# Altium footprint library Connector_Phoenix_MC.PcbLib: 180 footprints (part 4 of 12)
Each footprint in its own frame and in the unit in brackets; x right, y up, seen from the top. Pads: shape width x height; smd on the part's side, far side on the other; paste and mask are expansions set on the pad; w line width, h text height; cw(c..) or ccw(c..) is an arc to the next point about the centre after c.
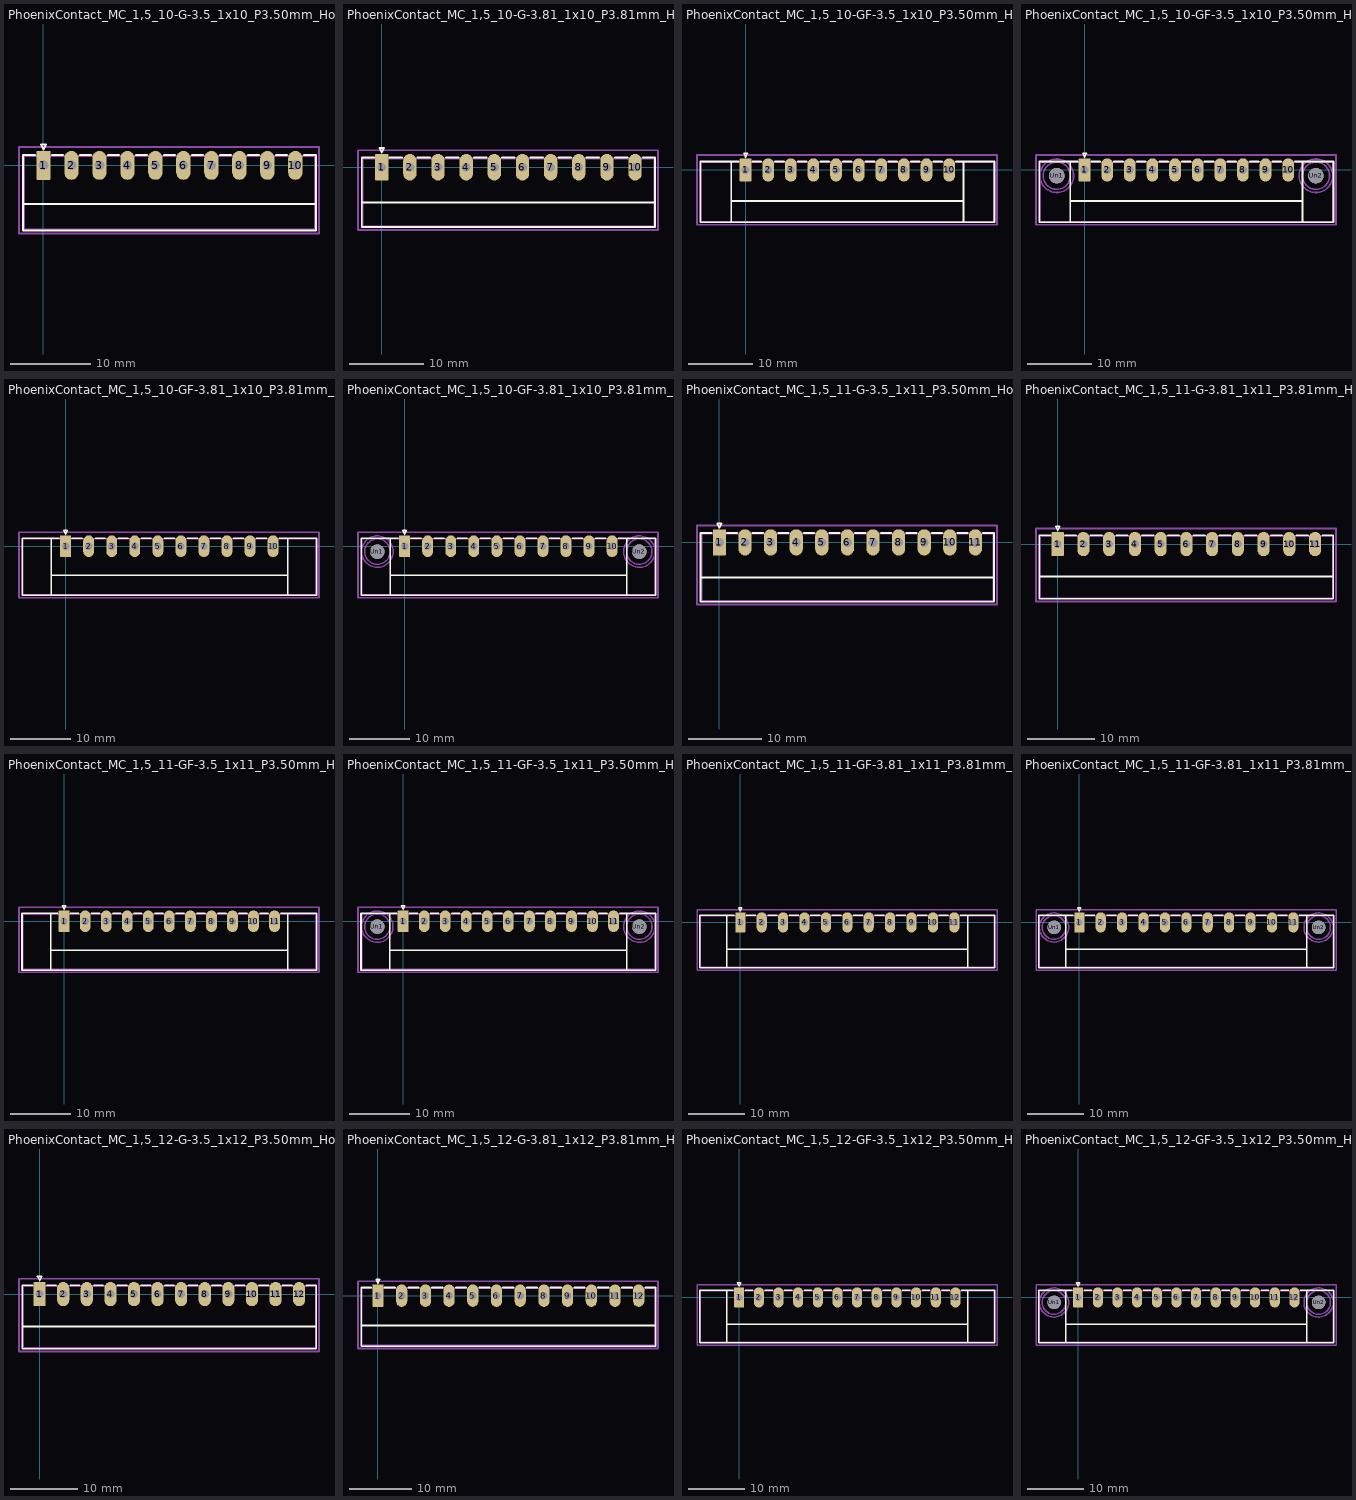
[diagram p3: the footprints below, top view; thin cyan lines are the x and y axes]

## PhoenixContact_MC_1,5_10-G-3.5_1x10_P3.50mm_Horizontal [mm]
pads (10):
  rrect14% 1.8x3.6 hole 1.2: 1(0,0)
  rrect100% 1.8x3.6 hole 1.2: 2(3.5,0) 3(7,0) 4(10.5,0) 5(14,0) 6(17.5,0) 7(21,0) 8(24.5,0) 9(28,0) 10(31.5,0)
F.SilkS:
  lines w0.254: -2.56,-4.8 34.06,-4.8 ; -1.05,1.31 -2.56,1.31 -2.56,-8.11 34.06,-8.11 34.06,1.31 32.55,1.31 ; 1.05,1.31 2.45,1.31 ; 4.55,1.31 5.95,1.31 ; 8.05,1.31 9.45,1.31 ; 11.55,1.31 12.95,1.31 ; 15.05,1.31 16.45,1.31 ; 18.55,1.31 19.95,1.31 ; 22.05,1.31 23.45,1.31 ; 25.55,1.31 26.95,1.31 ; 29.05,1.31 30.45,1.31 ; -0.3,2.6 0,2 0.3,2.6 -0.3,2.6
Top Assembly:
  lines w0.254: -0.8,1.2 0,0 0.8,1.2 ; -2.45,-8 33.95,-8 33.95,1.2 -2.45,1.2 -2.45,-8
  text "'.Designator'" at 11.703,-0.34 h1
Top Courtyard:
  lines w0.254: -3.06,-8.5 34.45,-8.5 34.45,2.3 -3.06,2.3 -3.06,-8.5
Top Designator:
  text ".Designator" at 8.077,-3.458 h1.52

## PhoenixContact_MC_1,5_10-G-3.81_1x10_P3.81mm_Horizontal [mm]
pads (10):
  rrect14% 1.8x3.6 hole 1.2: 1(0,0)
  rrect100% 1.8x3.6 hole 1.2: 2(3.81,0) 3(7.62,0) 4(11.43,0) 5(15.24,0) 6(19.05,0) 7(22.86,0) 8(26.67,0) 9(30.48,0) 10(34.29,0)
F.SilkS:
  lines w0.254: -2.71,-4.8 37,-4.8 ; -1.05,1.31 -2.71,1.31 -2.71,-8.11 37,-8.11 37,1.31 35.34,1.31 ; 1.05,1.31 2.76,1.31 ; 4.86,1.31 6.57,1.31 ; 8.67,1.31 10.38,1.31 ; 12.48,1.31 14.19,1.31 ; 16.29,1.31 18,1.31 ; 20.1,1.31 21.81,1.31 ; 23.91,1.31 25.62,1.31 ; 27.72,1.31 29.43,1.31 ; 31.53,1.31 33.24,1.31 ; -0.3,2.6 0,2 0.3,2.6 -0.3,2.6
Top Assembly:
  lines w0.254: -0.8,1.2 0,0 0.8,1.2 ; -2.6,-8 36.89,-8 36.89,1.2 -2.6,1.2 -2.6,-8
  text "'.Designator'" at 13.093,-0.34 h1
Top Courtyard:
  lines w0.254: -3.21,-8.5 37.39,-8.5 37.39,2.3 -3.21,2.3 -3.21,-8.5
Top Designator:
  text ".Designator" at 9.472,-3.458 h1.52

## PhoenixContact_MC_1,5_10-GF-3.5_1x10_P3.50mm_Horizontal_ThreadedFlange [mm]
pads (10):
  rrect14% 1.8x3.6 hole 1.2: 1(0,0)
  rrect100% 1.8x3.6 hole 1.2: 2(3.5,0) 3(7,0) 4(10.5,0) 5(14,0) 6(17.5,0) 7(21,0) 8(24.5,0) 9(28,0) 10(31.5,0)
F.SilkS:
  lines w0.254: -2.21,-8.11 -2.21,1.31 ; -2.21,-4.8 33.71,-4.8 ; -1.05,1.31 -7.01,1.31 -7.01,-8.11 38.51,-8.11 38.51,1.31 32.55,1.31 ; 1.05,1.31 2.45,1.31 ; 4.55,1.31 5.95,1.31 ; 8.05,1.31 9.45,1.31 ; 11.55,1.31 12.95,1.31 ; 15.05,1.31 16.45,1.31 ; 18.55,1.31 19.95,1.31 ; 22.05,1.31 23.45,1.31 ; 25.55,1.31 26.95,1.31 ; 29.05,1.31 30.45,1.31 ; 33.71,-8.11 33.71,1.31 ; -0.3,2.6 0,2 0.3,2.6 -0.3,2.6
Top Assembly:
  lines w0.254: -0.8,1.2 0,0 0.8,1.2 ; -6.9,-8 38.4,-8 38.4,1.2 -6.9,1.2 -6.9,-8
  text "'.Designator'" at 11.703,-0.34 h1
Top Courtyard:
  lines w0.254: -7.51,-8.5 38.9,-8.5 38.9,2.3 -7.51,2.3 -7.51,-8.5
Top Designator:
  text ".Designator" at 8.077,-3.458 h1.52

## PhoenixContact_MC_1,5_10-GF-3.5_1x10_P3.50mm_Horizontal_ThreadedFlange_MountHole [mm]
pads (12):
  rrect14% 1.8x3.6 hole 1.2: 1(0,0)
  rrect100% 1.8x3.6 hole 1.2: 2(3.5,0) 3(7,0) 4(10.5,0) 5(14,0) 6(17.5,0) 7(21,0) 8(24.5,0) 9(28,0) 10(31.5,0)
  round 2.4 hole 2.4: Un1(-4.3,-0.9) Un2(35.8,-0.9)
F.SilkS:
  lines w0.254: -2.21,-8.11 -2.21,1.31 ; -2.21,-4.8 33.71,-4.8 ; -1.05,1.31 -7.01,1.31 -7.01,-8.11 38.51,-8.11 38.51,1.31 32.55,1.31 ; 1.05,1.31 2.45,1.31 ; 4.55,1.31 5.95,1.31 ; 8.05,1.31 9.45,1.31 ; 11.55,1.31 12.95,1.31 ; 15.05,1.31 16.45,1.31 ; 18.55,1.31 19.95,1.31 ; 22.05,1.31 23.45,1.31 ; 25.55,1.31 26.95,1.31 ; 29.05,1.31 30.45,1.31 ; 33.71,-8.11 33.71,1.31 ; -0.3,2.6 0,2 0.3,2.6 -0.3,2.6
B.SilkS:
  circle w0.254: c35.8,-0.9 r2.21
  circle w0.254: c-4.3,-0.9 r2.21
Top Assembly:
  lines w0.254: -0.8,1.2 0,0 0.8,1.2 ; -6.9,-8 38.4,-8 38.4,1.2 -6.9,1.2 -6.9,-8
  text "'.Designator'" at 11.703,-0.34 h1
Bottom Assembly:
  circle w0.254: c35.8,-0.9 r2.1
  circle w0.254: c-4.3,-0.9 r2.1
Top Courtyard:
  lines w0.254: -7.51,-8.5 38.9,-8.5 38.9,2.3 -7.51,2.3 -7.51,-8.5
Bottom Courtyard:
  circle w0.254: c35.8,-0.9 r2.6
  circle w0.254: c-4.3,-0.9 r2.6
Top Designator:
  text ".Designator" at 8.077,-3.458 h1.52

## PhoenixContact_MC_1,5_10-GF-3.81_1x10_P3.81mm_Horizontal_ThreadedFlange [mm]
pads (10):
  rrect14% 1.8x3.6 hole 1.2: 1(0,0)
  rrect100% 1.8x3.6 hole 1.2: 2(3.81,0) 3(7.62,0) 4(11.43,0) 5(15.24,0) 6(19.05,0) 7(22.86,0) 8(26.67,0) 9(30.48,0) 10(34.29,0)
F.SilkS:
  lines w0.254: -2.41,-8.11 -2.41,1.31 ; -2.41,-4.8 36.7,-4.8 ; -1.05,1.31 -7.21,1.31 -7.21,-8.11 41.5,-8.11 41.5,1.31 35.34,1.31 ; 1.05,1.31 2.76,1.31 ; 4.86,1.31 6.57,1.31 ; 8.67,1.31 10.38,1.31 ; 12.48,1.31 14.19,1.31 ; 16.29,1.31 18,1.31 ; 20.1,1.31 21.81,1.31 ; 23.91,1.31 25.62,1.31 ; 27.72,1.31 29.43,1.31 ; 31.53,1.31 33.24,1.31 ; 36.7,-8.11 36.7,1.31 ; -0.3,2.6 0,2 0.3,2.6 -0.3,2.6
Top Assembly:
  lines w0.254: -0.8,1.2 0,0 0.8,1.2 ; -7.1,-8 41.39,-8 41.39,1.2 -7.1,1.2 -7.1,-8
  text "'.Designator'" at 13.093,-0.34 h1
Top Courtyard:
  lines w0.254: -7.71,-8.5 41.89,-8.5 41.89,2.3 -7.71,2.3 -7.71,-8.5
Top Designator:
  text ".Designator" at 9.472,-3.458 h1.52

## PhoenixContact_MC_1,5_10-GF-3.81_1x10_P3.81mm_Horizontal_ThreadedFlange_MountHole [mm]
pads (12):
  rrect14% 1.8x3.6 hole 1.2: 1(0,0)
  rrect100% 1.8x3.6 hole 1.2: 2(3.81,0) 3(7.62,0) 4(11.43,0) 5(15.24,0) 6(19.05,0) 7(22.86,0) 8(26.67,0) 9(30.48,0) 10(34.29,0)
  round 2.4 hole 2.4: Un1(-4.5,-0.9) Un2(38.79,-0.9)
F.SilkS:
  lines w0.254: -2.41,-8.11 -2.41,1.31 ; -2.41,-4.8 36.7,-4.8 ; -1.05,1.31 -7.21,1.31 -7.21,-8.11 41.5,-8.11 41.5,1.31 35.34,1.31 ; 1.05,1.31 2.76,1.31 ; 4.86,1.31 6.57,1.31 ; 8.67,1.31 10.38,1.31 ; 12.48,1.31 14.19,1.31 ; 16.29,1.31 18,1.31 ; 20.1,1.31 21.81,1.31 ; 23.91,1.31 25.62,1.31 ; 27.72,1.31 29.43,1.31 ; 31.53,1.31 33.24,1.31 ; 36.7,-8.11 36.7,1.31 ; -0.3,2.6 0,2 0.3,2.6 -0.3,2.6
B.SilkS:
  circle w0.254: c38.79,-0.9 r2.21
  circle w0.254: c-4.5,-0.9 r2.21
Top Assembly:
  lines w0.254: -0.8,1.2 0,0 0.8,1.2 ; -7.1,-8 41.39,-8 41.39,1.2 -7.1,1.2 -7.1,-8
  text "'.Designator'" at 13.093,-0.34 h1
Bottom Assembly:
  circle w0.254: c38.79,-0.9 r2.1
  circle w0.254: c-4.5,-0.9 r2.1
Top Courtyard:
  lines w0.254: -7.71,-8.5 41.89,-8.5 41.89,2.3 -7.71,2.3 -7.71,-8.5
Bottom Courtyard:
  circle w0.254: c38.79,-0.9 r2.6
  circle w0.254: c-4.5,-0.9 r2.6
Top Designator:
  text ".Designator" at 9.472,-3.458 h1.52

## PhoenixContact_MC_1,5_11-G-3.5_1x11_P3.50mm_Horizontal [mm]
pads (11):
  rrect14% 1.8x3.6 hole 1.2: 1(0,0)
  rrect100% 1.8x3.6 hole 1.2: 2(3.5,0) 3(7,0) 4(10.5,0) 5(14,0) 6(17.5,0) 7(21,0) 8(24.5,0) 9(28,0) 10(31.5,0) 11(35,0)
F.SilkS:
  lines w0.254: -2.56,-4.8 37.56,-4.8 ; -1.05,1.31 -2.56,1.31 -2.56,-8.11 37.56,-8.11 37.56,1.31 36.05,1.31 ; 1.05,1.31 2.45,1.31 ; 4.55,1.31 5.95,1.31 ; 8.05,1.31 9.45,1.31 ; 11.55,1.31 12.95,1.31 ; 15.05,1.31 16.45,1.31 ; 18.55,1.31 19.95,1.31 ; 22.05,1.31 23.45,1.31 ; 25.55,1.31 26.95,1.31 ; 29.05,1.31 30.45,1.31 ; 32.55,1.31 33.95,1.31 ; -0.3,2.6 0,2 0.3,2.6 -0.3,2.6
Top Assembly:
  lines w0.254: -0.8,1.2 0,0 0.8,1.2 ; -2.45,-8 37.45,-8 37.45,1.2 -2.45,1.2 -2.45,-8
  text "'.Designator'" at 13.453,-0.34 h1
Top Courtyard:
  lines w0.254: -3.06,-8.5 37.95,-8.5 37.95,2.3 -3.06,2.3 -3.06,-8.5
Top Designator:
  text ".Designator" at 9.827,-3.458 h1.52

## PhoenixContact_MC_1,5_11-G-3.81_1x11_P3.81mm_Horizontal [mm]
pads (11):
  rrect14% 1.8x3.6 hole 1.2: 1(0,0)
  rrect100% 1.8x3.6 hole 1.2: 2(3.81,0) 3(7.62,0) 4(11.43,0) 5(15.24,0) 6(19.05,0) 7(22.86,0) 8(26.67,0) 9(30.48,0) 10(34.29,0) 11(38.1,0)
F.SilkS:
  lines w0.254: -2.71,-4.8 40.81,-4.8 ; -1.05,1.31 -2.71,1.31 -2.71,-8.11 40.81,-8.11 40.81,1.31 39.15,1.31 ; 1.05,1.31 2.76,1.31 ; 4.86,1.31 6.57,1.31 ; 8.67,1.31 10.38,1.31 ; 12.48,1.31 14.19,1.31 ; 16.29,1.31 18,1.31 ; 20.1,1.31 21.81,1.31 ; 23.91,1.31 25.62,1.31 ; 27.72,1.31 29.43,1.31 ; 31.53,1.31 33.24,1.31 ; 35.34,1.31 37.05,1.31 ; -0.3,2.6 0,2 0.3,2.6 -0.3,2.6
Top Assembly:
  lines w0.254: -0.8,1.2 0,0 0.8,1.2 ; -2.6,-8 40.7,-8 40.7,1.2 -2.6,1.2 -2.6,-8
  text "'.Designator'" at 15.003,-0.34 h1
Top Courtyard:
  lines w0.254: -3.21,-8.5 41.2,-8.5 41.2,2.3 -3.21,2.3 -3.21,-8.5
Top Designator:
  text ".Designator" at 11.377,-3.458 h1.52

## PhoenixContact_MC_1,5_11-GF-3.5_1x11_P3.50mm_Horizontal_ThreadedFlange [mm]
pads (11):
  rrect14% 1.8x3.6 hole 1.2: 1(0,0)
  rrect100% 1.8x3.6 hole 1.2: 2(3.5,0) 3(7,0) 4(10.5,0) 5(14,0) 6(17.5,0) 7(21,0) 8(24.5,0) 9(28,0) 10(31.5,0) 11(35,0)
F.SilkS:
  lines w0.254: -2.21,-8.11 -2.21,1.31 ; -2.21,-4.8 37.21,-4.8 ; -1.05,1.31 -7.01,1.31 -7.01,-8.11 42.01,-8.11 42.01,1.31 36.05,1.31 ; 1.05,1.31 2.45,1.31 ; 4.55,1.31 5.95,1.31 ; 8.05,1.31 9.45,1.31 ; 11.55,1.31 12.95,1.31 ; 15.05,1.31 16.45,1.31 ; 18.55,1.31 19.95,1.31 ; 22.05,1.31 23.45,1.31 ; 25.55,1.31 26.95,1.31 ; 29.05,1.31 30.45,1.31 ; 32.55,1.31 33.95,1.31 ; 37.21,-8.11 37.21,1.31 ; -0.3,2.6 0,2 0.3,2.6 -0.3,2.6
Top Assembly:
  lines w0.254: -0.8,1.2 0,0 0.8,1.2 ; -6.9,-8 41.9,-8 41.9,1.2 -6.9,1.2 -6.9,-8
  text "'.Designator'" at 13.453,-0.34 h1
Top Courtyard:
  lines w0.254: -7.51,-8.5 42.4,-8.5 42.4,2.3 -7.51,2.3 -7.51,-8.5
Top Designator:
  text ".Designator" at 9.827,-3.458 h1.52

## PhoenixContact_MC_1,5_11-GF-3.5_1x11_P3.50mm_Horizontal_ThreadedFlange_MountHole [mm]
pads (13):
  rrect14% 1.8x3.6 hole 1.2: 1(0,0)
  rrect100% 1.8x3.6 hole 1.2: 2(3.5,0) 3(7,0) 4(10.5,0) 5(14,0) 6(17.5,0) 7(21,0) 8(24.5,0) 9(28,0) 10(31.5,0) 11(35,0)
  round 2.4 hole 2.4: Un1(-4.3,-0.9) Un2(39.3,-0.9)
F.SilkS:
  lines w0.254: -2.21,-8.11 -2.21,1.31 ; -2.21,-4.8 37.21,-4.8 ; -1.05,1.31 -7.01,1.31 -7.01,-8.11 42.01,-8.11 42.01,1.31 36.05,1.31 ; 1.05,1.31 2.45,1.31 ; 4.55,1.31 5.95,1.31 ; 8.05,1.31 9.45,1.31 ; 11.55,1.31 12.95,1.31 ; 15.05,1.31 16.45,1.31 ; 18.55,1.31 19.95,1.31 ; 22.05,1.31 23.45,1.31 ; 25.55,1.31 26.95,1.31 ; 29.05,1.31 30.45,1.31 ; 32.55,1.31 33.95,1.31 ; 37.21,-8.11 37.21,1.31 ; -0.3,2.6 0,2 0.3,2.6 -0.3,2.6
B.SilkS:
  circle w0.254: c39.3,-0.9 r2.21
  circle w0.254: c-4.3,-0.9 r2.21
Top Assembly:
  lines w0.254: -0.8,1.2 0,0 0.8,1.2 ; -6.9,-8 41.9,-8 41.9,1.2 -6.9,1.2 -6.9,-8
  text "'.Designator'" at 13.453,-0.34 h1
Bottom Assembly:
  circle w0.254: c39.3,-0.9 r2.1
  circle w0.254: c-4.3,-0.9 r2.1
Top Courtyard:
  lines w0.254: -7.51,-8.5 42.4,-8.5 42.4,2.3 -7.51,2.3 -7.51,-8.5
Bottom Courtyard:
  circle w0.254: c39.3,-0.9 r2.6
  circle w0.254: c-4.3,-0.9 r2.6
Top Designator:
  text ".Designator" at 9.827,-3.458 h1.52

## PhoenixContact_MC_1,5_11-GF-3.81_1x11_P3.81mm_Horizontal_ThreadedFlange [mm]
pads (11):
  rrect14% 1.8x3.6 hole 1.2: 1(0,0)
  rrect100% 1.8x3.6 hole 1.2: 2(3.81,0) 3(7.62,0) 4(11.43,0) 5(15.24,0) 6(19.05,0) 7(22.86,0) 8(26.67,0) 9(30.48,0) 10(34.29,0) 11(38.1,0)
F.SilkS:
  lines w0.254: -2.41,-8.11 -2.41,1.31 ; -2.41,-4.8 40.51,-4.8 ; -1.05,1.31 -7.21,1.31 -7.21,-8.11 45.31,-8.11 45.31,1.31 39.15,1.31 ; 1.05,1.31 2.76,1.31 ; 4.86,1.31 6.57,1.31 ; 8.67,1.31 10.38,1.31 ; 12.48,1.31 14.19,1.31 ; 16.29,1.31 18,1.31 ; 20.1,1.31 21.81,1.31 ; 23.91,1.31 25.62,1.31 ; 27.72,1.31 29.43,1.31 ; 31.53,1.31 33.24,1.31 ; 35.34,1.31 37.05,1.31 ; 40.51,-8.11 40.51,1.31 ; -0.3,2.6 0,2 0.3,2.6 -0.3,2.6
Top Assembly:
  lines w0.254: -0.8,1.2 0,0 0.8,1.2 ; -7.1,-8 45.2,-8 45.2,1.2 -7.1,1.2 -7.1,-8
  text "'.Designator'" at 15.003,-0.34 h1
Top Courtyard:
  lines w0.254: -7.71,-8.5 45.7,-8.5 45.7,2.3 -7.71,2.3 -7.71,-8.5
Top Designator:
  text ".Designator" at 11.377,-3.458 h1.52

## PhoenixContact_MC_1,5_11-GF-3.81_1x11_P3.81mm_Horizontal_ThreadedFlange_MountHole [mm]
pads (13):
  rrect14% 1.8x3.6 hole 1.2: 1(0,0)
  rrect100% 1.8x3.6 hole 1.2: 2(3.81,0) 3(7.62,0) 4(11.43,0) 5(15.24,0) 6(19.05,0) 7(22.86,0) 8(26.67,0) 9(30.48,0) 10(34.29,0) 11(38.1,0)
  round 2.4 hole 2.4: Un1(-4.5,-0.9) Un2(42.6,-0.9)
F.SilkS:
  lines w0.254: -2.41,-8.11 -2.41,1.31 ; -2.41,-4.8 40.51,-4.8 ; -1.05,1.31 -7.21,1.31 -7.21,-8.11 45.31,-8.11 45.31,1.31 39.15,1.31 ; 1.05,1.31 2.76,1.31 ; 4.86,1.31 6.57,1.31 ; 8.67,1.31 10.38,1.31 ; 12.48,1.31 14.19,1.31 ; 16.29,1.31 18,1.31 ; 20.1,1.31 21.81,1.31 ; 23.91,1.31 25.62,1.31 ; 27.72,1.31 29.43,1.31 ; 31.53,1.31 33.24,1.31 ; 35.34,1.31 37.05,1.31 ; 40.51,-8.11 40.51,1.31 ; -0.3,2.6 0,2 0.3,2.6 -0.3,2.6
B.SilkS:
  circle w0.254: c42.6,-0.9 r2.21
  circle w0.254: c-4.5,-0.9 r2.21
Top Assembly:
  lines w0.254: -0.8,1.2 0,0 0.8,1.2 ; -7.1,-8 45.2,-8 45.2,1.2 -7.1,1.2 -7.1,-8
  text "'.Designator'" at 15.003,-0.34 h1
Bottom Assembly:
  circle w0.254: c42.6,-0.9 r2.1
  circle w0.254: c-4.5,-0.9 r2.1
Top Courtyard:
  lines w0.254: -7.71,-8.5 45.7,-8.5 45.7,2.3 -7.71,2.3 -7.71,-8.5
Bottom Courtyard:
  circle w0.254: c42.6,-0.9 r2.6
  circle w0.254: c-4.5,-0.9 r2.6
Top Designator:
  text ".Designator" at 11.377,-3.458 h1.52

## PhoenixContact_MC_1,5_12-G-3.5_1x12_P3.50mm_Horizontal [mm]
pads (12):
  rrect14% 1.8x3.6 hole 1.2: 1(0,0)
  rrect100% 1.8x3.6 hole 1.2: 2(3.5,0) 3(7,0) 4(10.5,0) 5(14,0) 6(17.5,0) 7(21,0) 8(24.5,0) 9(28,0) 10(31.5,0) 11(35,0) 12(38.5,0)
F.SilkS:
  lines w0.254: -2.56,-4.8 41.06,-4.8 ; -1.05,1.31 -2.56,1.31 -2.56,-8.11 41.06,-8.11 41.06,1.31 39.55,1.31 ; 1.05,1.31 2.45,1.31 ; 4.55,1.31 5.95,1.31 ; 8.05,1.31 9.45,1.31 ; 11.55,1.31 12.95,1.31 ; 15.05,1.31 16.45,1.31 ; 18.55,1.31 19.95,1.31 ; 22.05,1.31 23.45,1.31 ; 25.55,1.31 26.95,1.31 ; 29.05,1.31 30.45,1.31 ; 32.55,1.31 33.95,1.31 ; 36.05,1.31 37.45,1.31 ; -0.3,2.6 0,2 0.3,2.6 -0.3,2.6
Top Assembly:
  lines w0.254: -0.8,1.2 0,0 0.8,1.2 ; -2.45,-8 40.95,-8 40.95,1.2 -2.45,1.2 -2.45,-8
  text "'.Designator'" at 15.203,-0.34 h1
Top Courtyard:
  lines w0.254: -3.06,-8.5 41.45,-8.5 41.45,2.3 -3.06,2.3 -3.06,-8.5
Top Designator:
  text ".Designator" at 11.577,-3.458 h1.52

## PhoenixContact_MC_1,5_12-G-3.81_1x12_P3.81mm_Horizontal [mm]
pads (12):
  rrect14% 1.8x3.6 hole 1.2: 1(0,0)
  rrect100% 1.8x3.6 hole 1.2: 2(3.81,0) 3(7.62,0) 4(11.43,0) 5(15.24,0) 6(19.05,0) 7(22.86,0) 8(26.67,0) 9(30.48,0) 10(34.29,0) 11(38.1,0) 12(41.91,0)
F.SilkS:
  lines w0.254: -2.71,-4.8 44.62,-4.8 ; -1.05,1.31 -2.71,1.31 -2.71,-8.11 44.62,-8.11 44.62,1.31 42.96,1.31 ; 1.05,1.31 2.76,1.31 ; 4.86,1.31 6.57,1.31 ; 8.67,1.31 10.38,1.31 ; 12.48,1.31 14.19,1.31 ; 16.29,1.31 18,1.31 ; 20.1,1.31 21.81,1.31 ; 23.91,1.31 25.62,1.31 ; 27.72,1.31 29.43,1.31 ; 31.53,1.31 33.24,1.31 ; 35.34,1.31 37.05,1.31 ; 39.15,1.31 40.86,1.31 ; -0.3,2.6 0,2 0.3,2.6 -0.3,2.6
Top Assembly:
  lines w0.254: -0.8,1.2 0,0 0.8,1.2 ; -2.6,-8 44.51,-8 44.51,1.2 -2.6,1.2 -2.6,-8
  text "'.Designator'" at 16.913,-0.34 h1
Top Courtyard:
  lines w0.254: -3.21,-8.5 45.01,-8.5 45.01,2.3 -3.21,2.3 -3.21,-8.5
Top Designator:
  text ".Designator" at 13.282,-3.458 h1.52

## PhoenixContact_MC_1,5_12-GF-3.5_1x12_P3.50mm_Horizontal_ThreadedFlange [mm]
pads (12):
  rrect14% 1.8x3.6 hole 1.2: 1(0,0)
  rrect100% 1.8x3.6 hole 1.2: 2(3.5,0) 3(7,0) 4(10.5,0) 5(14,0) 6(17.5,0) 7(21,0) 8(24.5,0) 9(28,0) 10(31.5,0) 11(35,0) 12(38.5,0)
F.SilkS:
  lines w0.254: -2.21,-8.11 -2.21,1.31 ; -2.21,-4.8 40.71,-4.8 ; -1.05,1.31 -7.01,1.31 -7.01,-8.11 45.51,-8.11 45.51,1.31 39.55,1.31 ; 1.05,1.31 2.45,1.31 ; 4.55,1.31 5.95,1.31 ; 8.05,1.31 9.45,1.31 ; 11.55,1.31 12.95,1.31 ; 15.05,1.31 16.45,1.31 ; 18.55,1.31 19.95,1.31 ; 22.05,1.31 23.45,1.31 ; 25.55,1.31 26.95,1.31 ; 29.05,1.31 30.45,1.31 ; 32.55,1.31 33.95,1.31 ; 36.05,1.31 37.45,1.31 ; 40.71,-8.11 40.71,1.31 ; -0.3,2.6 0,2 0.3,2.6 -0.3,2.6
Top Assembly:
  lines w0.254: -0.8,1.2 0,0 0.8,1.2 ; -6.9,-8 45.4,-8 45.4,1.2 -6.9,1.2 -6.9,-8
  text "'.Designator'" at 15.203,-0.34 h1
Top Courtyard:
  lines w0.254: -7.51,-8.5 45.9,-8.5 45.9,2.3 -7.51,2.3 -7.51,-8.5
Top Designator:
  text ".Designator" at 11.577,-3.458 h1.52

## PhoenixContact_MC_1,5_12-GF-3.5_1x12_P3.50mm_Horizontal_ThreadedFlange_MountHole [mm]
pads (14):
  rrect14% 1.8x3.6 hole 1.2: 1(0,0)
  rrect100% 1.8x3.6 hole 1.2: 2(3.5,0) 3(7,0) 4(10.5,0) 5(14,0) 6(17.5,0) 7(21,0) 8(24.5,0) 9(28,0) 10(31.5,0) 11(35,0) 12(38.5,0)
  round 2.4 hole 2.4: Un1(-4.3,-0.9) Un2(42.8,-0.9)
F.SilkS:
  lines w0.254: -2.21,-8.11 -2.21,1.31 ; -2.21,-4.8 40.71,-4.8 ; -1.05,1.31 -7.01,1.31 -7.01,-8.11 45.51,-8.11 45.51,1.31 39.55,1.31 ; 1.05,1.31 2.45,1.31 ; 4.55,1.31 5.95,1.31 ; 8.05,1.31 9.45,1.31 ; 11.55,1.31 12.95,1.31 ; 15.05,1.31 16.45,1.31 ; 18.55,1.31 19.95,1.31 ; 22.05,1.31 23.45,1.31 ; 25.55,1.31 26.95,1.31 ; 29.05,1.31 30.45,1.31 ; 32.55,1.31 33.95,1.31 ; 36.05,1.31 37.45,1.31 ; 40.71,-8.11 40.71,1.31 ; -0.3,2.6 0,2 0.3,2.6 -0.3,2.6
B.SilkS:
  circle w0.254: c42.8,-0.9 r2.21
  circle w0.254: c-4.3,-0.9 r2.21
Top Assembly:
  lines w0.254: -0.8,1.2 0,0 0.8,1.2 ; -6.9,-8 45.4,-8 45.4,1.2 -6.9,1.2 -6.9,-8
  text "'.Designator'" at 15.203,-0.34 h1
Bottom Assembly:
  circle w0.254: c42.8,-0.9 r2.1
  circle w0.254: c-4.3,-0.9 r2.1
Top Courtyard:
  lines w0.254: -7.51,-8.5 45.9,-8.5 45.9,2.3 -7.51,2.3 -7.51,-8.5
Bottom Courtyard:
  circle w0.254: c42.8,-0.9 r2.6
  circle w0.254: c-4.3,-0.9 r2.6
Top Designator:
  text ".Designator" at 11.577,-3.458 h1.52